# Altium schematic symbol library GCT, USB4056.SchLib: 1 symbol
Pins are listed as number, name and electrical type; pins without a type are passive.

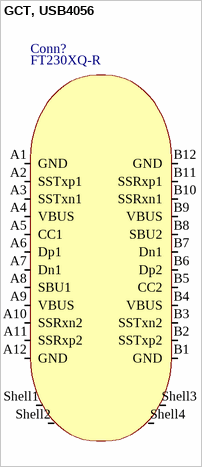
[diagram p0: symbol GCT, USB4056]

## GCT, USB4056
designator Conn?  Manufacturer Part number: FT230XQ-R  (hidden comment: *)
IC,Interface,FTDI,QFN16; component category: capacitor*; ComponentLink1Description: datasheet; ComponentLink1URL: *; ComponentLink2Description: supplier link; ComponentLink2URL: *; component type: ceramic; supplier link: *; supplier currency: *; price,max: *; price,min: *; Quantity,max: *; Quantity,min: *; Operating Temparature,max: +85; Operating Temparature,min: -40; Supplier Part number: *; Supplier: Digikey; Manufacturer: FTDI; Package: SOP-8
footprint GCT, USB4056
pins: A1 GND, A2 SSTxp1, A3 SSTxn1, A4 VBUS, A5 CC1, A6 Dp1, A7 Dn1, A8 SBU1, A9 VBUS, A10 SSRxn2, A11 SSRxp2, A12 GND, B1 GND, B2 SSTxp2, B3 SSTxn2, B4 VBUS, B5 CC2, B6 Dp2, B7 Dn1, B8 SBU2, B9 VBUS, B10 SSRxn1, B11 SSRxp1, B12 GND, Shell1 Chassis1, Shell2 Chassis2, Shell3 Chassis3, Shell4 Chassis4